# EAGLE library part STMPS22*2?TR (library ic-ST)
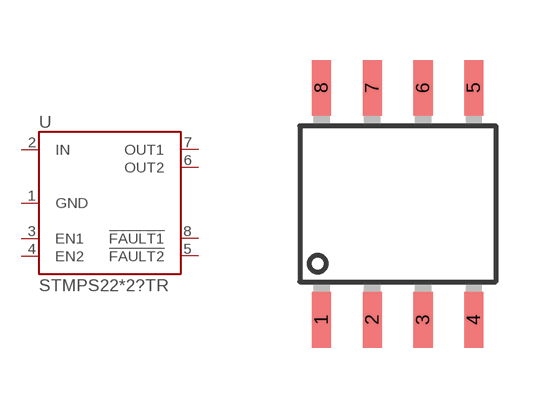
[diagram p2: symbol with the pads of SOP8; footprint SOP8]

Designator prefix U

## STMPS2242MTR (CURRENT: 500mA; ENABLE: Active Low), STMPS2252MTR (CURRENT: 500mA; ENABLE: Active High), STMPS2262MTR (CURRENT: 1000mA; ENABLE: Active Low), STMPS2272MTR (CURRENT: 1000mA; ENABLE: Active High)  [SOP8]
1  GND
2  IN
3  EN1
4  EN2
5  !FAULT2
6  OUT2
7  OUT1
8  !FAULT1

## Footprint SOP8 (pad centres in mm)
smd 0.48 x 1.4: 1 -1.905,-2.9; 2 -0.635,-2.9; 3 0.635,-2.9; 4 1.905,-2.9; 5 1.905,2.9; 6 0.635,2.9; 7 -0.635,2.9; 8 -1.905,2.9